# EAGLE library part NE555DR (library Common-Parts-Library-Eagle)
Peripheral circuit; astable/monostable, timer; 500kHz
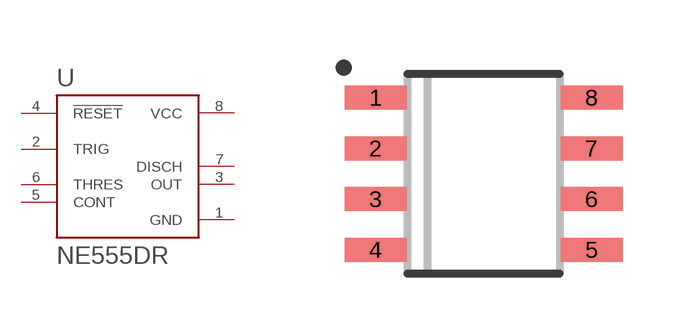
[diagram p66: symbol with the pads of SOIC127P600X175-8N; footprint SOIC127P600X175-8N]

Designator prefix U

## NE555DR (MANUFACTURER: Texas Instruments)  [SOIC127P600X175-8N]
1  GND  pwr
2  TRIG  in
3  OUT  out
4  !RESET  in
5  CONT  in
6  THRES  in
7  DISCH  out
8  VCC  pwr

## Footprint SOIC127P600X175-8N (pad centres in mm)
smd 1.55 x 0.6: 1 -2.7,1.905; 2 -2.7,0.635; 3 -2.7,-0.635; 4 -2.7,-1.905; 5 2.7,-1.905; 6 2.7,-0.635; 7 2.7,0.635; 8 2.7,1.905